# Altium footprint library longqiuPCB.PCBLIB: 9 footprints
Each footprint in its own frame and in the unit in brackets; x right, y up, seen from the top. Pads: shape width x height; smd on the part's side, far side on the other; paste and mask are expansions set on the pad; w line width, h text height; cw(c..) or ccw(c..) is an arc to the next point about the centre after c.
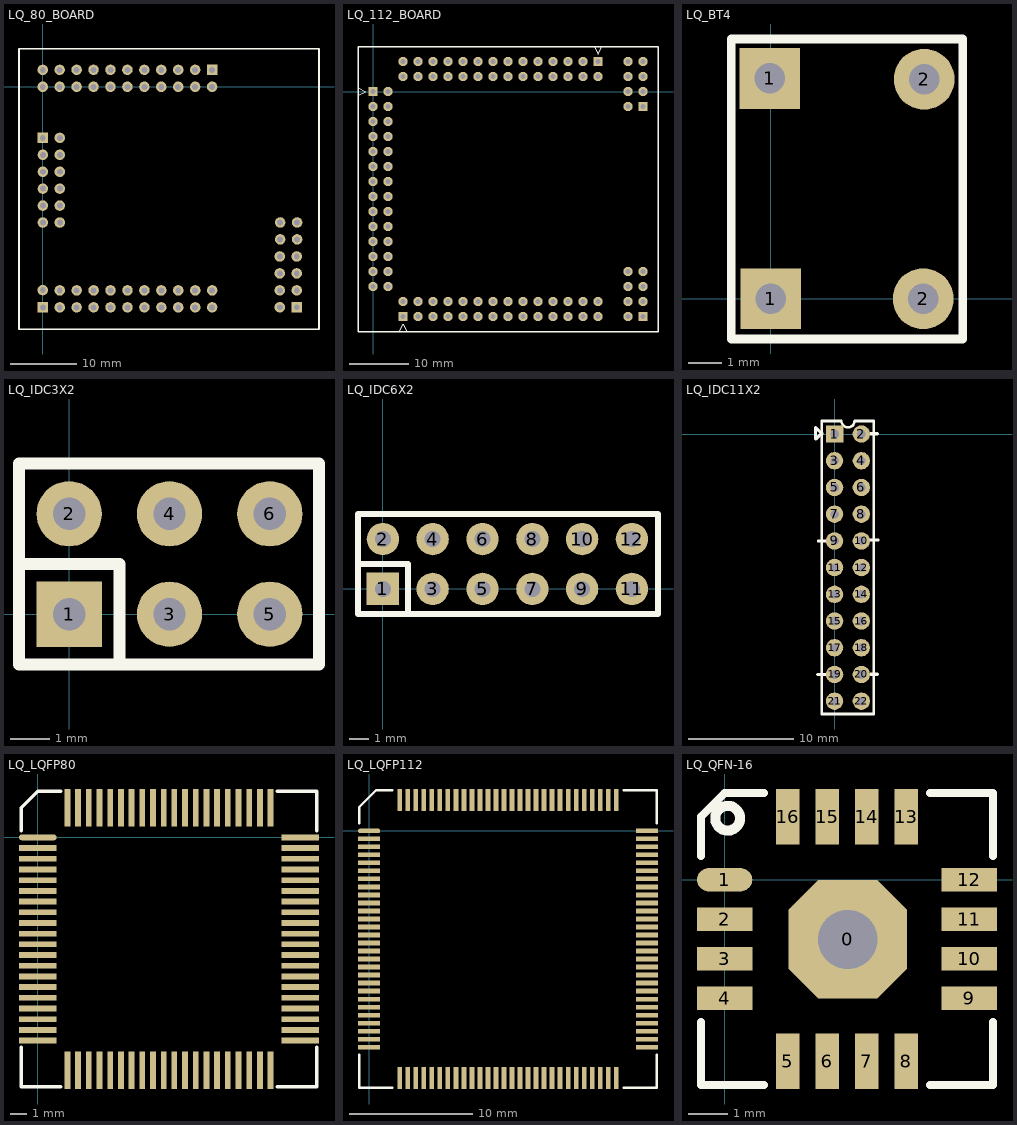
[diagram p0: the footprints below, top view; thin cyan lines are the x and y axes]

## LQ_80_BOARD [mil]
pads (68):
  rect 62x62 hole 35: 101(0.39,-1301.57) 201(0,-300.39) 301(1000,100.79) 401(1500,-1301.18)
  round 62 hole 35: 102(0,-1200) 103(100.39,-1301.57) 104(100.39,-1201.57) 105(200.39,-1301.57) 106(200.39,-1201.57) 107(300.39,-1301.57) 108(300.39,-1201.57) 109(400.39,-1301.57) 110(400.39,-1201.57) 111(500.39,-1301.57) 112(500.39,-1201.57) 113(600.39,-1301.57) 114(600.39,-1201.57) 115(700.39,-1301.57) 116(700.39,-1201.57) 117(800.39,-1301.57) 118(800.39,-1201.57) 119(900.39,-1301.57) 120(900.39,-1201.57) 121(1000.39,-1301.57) 122(1000.39,-1201.57) 202(100.79,-300.79) 203(0.79,-400.79) 204(100.79,-400.79) 205(0.79,-500.79) 206(100.79,-500.79) 207(0.79,-600.79) 208(100.79,-600.79) 209(0.79,-700.79) 210(100.79,-700.79) 211(0.79,-800.79) 212(100.79,-800.79) 302(1000,0.79) 303(900,100.79) 304(900,0.79) 305(800,100.79) 306(800,0.79) 307(700,100.79) 308(700,0.79) 309(600,100.79) 310(600,0.79) 311(500,100.79) 312(500,0.79) 313(400,100.79) 314(400,0.79) 315(300,100.79) 316(300,0.79) 317(200,100.79) 318(200,0.79) 319(100,100.79) 320(100,0.79) 321(0,100.79) 322(0,0.79) 402(1400,-1301.18) 403(1500,-1201.18) 404(1400,-1201.18) 405(1500,-1101.18) 406(1400,-1101.18) 407(1500,-1001.18) 408(1400,-1001.18) 409(1501.97,-900.39) 410(1401.97,-900.39) 411(1501.97,-800.39) 412(1401.97,-800.39)
TopOverlay:
  lines w10: -140.16,-1430.31 1631.5,-1430.31 1631.5,224.8 -140.16,224.8 -140.16,-1430.31

## LQ_112_BOARD [mil]
pads (100):
  rect 62x62 hole 35: 101(200,-1500) 201(0,0) 301(1500,200) 401(1800,-1500) 501(1800,-100)
  round 62 hole 35: 102(200,-1400) 103(300,-1500) 104(300,-1400) 105(400,-1500) 106(400,-1400) 107(500,-1500) 108(500,-1400) 109(600,-1500) 110(600,-1400) 111(700,-1500) 112(700,-1400) 113(800,-1500) 114(800,-1400) 115(900,-1500) 116(900,-1400) 117(1000,-1500) 118(1000,-1400) 119(1100,-1500) 120(1100,-1400) 121(1200,-1500) 122(1200,-1400) 123(1300,-1500) 124(1300,-1400) 125(1400,-1500) 126(1400,-1400) 127(1500,-1500) 128(1500,-1400) 202(100,0) 203(0,-100) 204(100,-100) 205(0,-200) 206(100,-200) 207(0,-300) 208(100,-300) 209(0,-400) 210(100,-400) 211(0,-500) 212(100,-500) 213(0,-600) 214(100,-600) 215(0,-700) 216(100,-700) 217(0,-800) 218(100,-800) 219(0,-900) 220(100,-900) 221(0,-1000) 222(100,-1000) 223(0,-1100) 224(100,-1100) 225(0,-1200) 226(100,-1200) 227(0,-1300) 228(100,-1300) 302(1500,100) 303(1400,200) 304(1400,100) 305(1300,200) 306(1300,100) 307(1200,200) 308(1200,100) 309(1100,200) 310(1100,100) 311(1000,200) 312(1000,100) 313(900,200) 314(900,100) 315(800,200) 316(800,100) 317(700,200) 318(700,100) 319(600,200) 320(600,100) 321(500,200) 322(500,100) 323(400,200) 324(400,100) 325(300,200) 326(300,100) 327(200,200) 328(200,100) 402(1700,-1500) 403(1800,-1400) 404(1700,-1400) 405(1800,-1300) 406(1700,-1300) 407(1800,-1200) 408(1700,-1200) 502(1700,-100) 503(1800,0) 504(1700,0) 505(1800,100) 506(1700,100) 507(1800,200) 508(1700,200)
TopOverlay:
  lines w8: -100,-25 -50,0 -100,25 ; 175,-1600 200,-1550 225,-1600 ; 1475,300 1500,250 1525,300
  lines w10: -100,-1600 1900,-1600 1900,300 -100,300 -100,-1600

## LQ_BT4 [mm]
pads (4):
  rect 1.8x1.8 hole 0.9: 1(-0.025,6.528) 1(0,0)
  round 1.8 hole 0.9: 2(4.521,0) 2(4.547,6.502)
TopOverlay:
  lines w0.254: -1.168,-1.194 5.69,-1.194 5.69,7.696 -1.168,7.696 -1.168,-1.194

## LQ_IDC3X2 [mm]
pads (6):
  rect 1.65x1.65 hole 0.82: 1(0,0)
  round 1.65 hole 0.82: 2(0,2.54) 3(2.54,0) 4(2.54,2.54) 5(5.08,0) 6(5.08,2.54)
TopOverlay:
  lines w0.305: -1.27,1.27 1.27,1.27 1.27,-1.27 ; -1.27,-1.27 6.325,-1.27 6.325,3.81 -1.27,3.81 -1.27,-1.27

## LQ_IDC6X2 [mm]
pads (12):
  rect 1.65x1.65 hole 0.82: 1(0,0)
  round 1.65 hole 0.82: 2(0,2.54) 3(2.54,0) 4(2.54,2.54) 5(5.08,0) 6(5.08,2.54) 7(7.62,0) 8(7.62,2.54) 9(10.16,0) 10(10.16,2.54) 11(12.7,0) 12(12.7,2.54)
TopOverlay:
  lines w0.305: -1.27,1.27 1.27,1.27 1.27,-1.27 ; -1.27,-1.27 -1.27,3.81 14.03,3.81 14.03,-1.27 -1.27,-1.27

## LQ_IDC11X2 [mm]
pads (22):
  rect 1.65x1.65 hole 0.82: 1(0,0)
  round 1.65 hole 0.82: 2(2.54,0) 3(0,-2.54) 4(2.54,-2.54) 5(0,-5.08) 6(2.54,-5.08) 7(0,-7.62) 8(2.54,-7.62) 9(0,-10.16) 10(2.54,-10.16) 11(0,-12.7) 12(2.54,-12.7) 13(0,-15.24) 14(2.54,-15.24) 15(0,-17.78) 16(2.54,-17.78) 17(0,-20.32) 18(2.54,-20.32) 19(0,-22.86) 20(2.54,-22.86) 21(0,-25.4) 22(2.54,-25.4)
TopOverlay:
  lines w0.254: -1.56,-10.17 -0.8,-10.17 ; -1.21,-26.62 -1.21,1.27 ; -1.2,-26.62 3.728,-26.62 ; -1.194,1.245 0.559,1.245 ; 0.635,1.27 ccw(c1.27,1.27) 1.905,1.27 ; 1.956,1.245 3.734,1.245 ; 3.27,-10.07 4.16,-10.07 ; 3.718,-26.62 3.718,1.27
  lines w0.3: -1.6,-22.86 -0.711,-22.86 ; -1.219,0.102 -1.803,-0.483 -1.803,0.61 -1.194,0 -1.194,-0.025 ; 3.404,-22.835 4.064,-22.835 ; 3.404,0.025 4.089,0.025

## LQ_LQFP80 [mm]
pads (80):
  oval 2.286x0.35 smd: 1(0,0)
  rect 2.286x0.35 smd: 2(0,-0.65) 3(0,-1.3) 4(0,-1.95) 5(0,-2.6) 6(0,-3.25) 7(0,-3.9) 8(0,-4.55) 9(0,-5.2) 10(0,-5.85) 11(0,-6.5) 12(0,-7.15) 13(0,-7.8) 14(0,-8.45) 15(0,-9.1) 16(0,-9.75) 17(0,-10.4) 18(0,-11.05) 19(0,-11.7) 20(0,-12.35) 41(15.95,-12.35) 42(15.95,-11.7) 43(15.95,-11.05) 44(15.95,-10.4) 45(15.95,-9.75) 46(15.95,-9.1) 47(15.95,-8.45) 48(15.95,-7.8) 49(15.95,-7.15) 50(15.95,-6.5) 51(15.95,-5.85) 52(15.95,-5.2) 53(15.95,-4.55) 54(15.95,-3.9) 55(15.95,-3.25) 56(15.95,-2.6) 57(15.95,-1.95) 58(15.95,-1.3) 59(15.95,-0.65) 60(15.95,0)
  rect 0.35x2.286 smd: 21(1.8,-14.15) 22(2.45,-14.15) 23(3.1,-14.15) 24(3.75,-14.15) 25(4.4,-14.15) 26(5.05,-14.15) 27(5.7,-14.15) 28(6.35,-14.15) 29(7,-14.15) 30(7.65,-14.15) 31(8.3,-14.15) 32(8.95,-14.15) 33(9.6,-14.15) 34(10.25,-14.15) 35(10.9,-14.15) 36(11.55,-14.15) 37(12.2,-14.15) 38(12.85,-14.15) 39(13.5,-14.15) 40(14.15,-14.15) 61(14.15,1.8) 62(13.5,1.8) 63(12.85,1.8) 64(12.2,1.8) 65(11.55,1.8) 66(10.9,1.8) 67(10.25,1.8) 68(9.6,1.8) 69(8.95,1.8) 70(8.3,1.8) 71(7.65,1.8) 72(7,1.8) 73(6.35,1.8) 74(5.7,1.8) 75(5.05,1.8) 76(4.4,1.8) 77(3.75,1.8) 78(3.1,1.8) 79(2.45,1.8) 80(1.8,1.8)
TopOverlay:
  lines w0.2: -1,-12.75 -1,-15.15 1.4,-15.15 ; -1,0.4 -1,1.8 0,2.8 1.4,2.8 ; 14.55,-15.15 16.95,-15.15 16.95,-12.75 ; 14.55,2.8 16.95,2.8 16.95,0.4

## LQ_LQFP112 [mm]
pads (112):
  oval 1.8x0.375 smd: 1(0,0)
  rect 1.8x0.375 smd: 2(0,-0.65) 3(0,-1.3) 4(0,-1.95) 5(0,-2.6) 6(0,-3.25) 7(0,-3.9) 8(0,-4.55) 9(0,-5.2) 10(0,-5.85) 11(0,-6.5) 12(0,-7.15) 13(0,-7.8) 14(0,-8.45) 15(0,-9.1) 16(0,-9.75) 17(0,-10.4) 18(0,-11.05) 19(0,-11.7) 20(0,-12.35) 21(0,-13) 22(0,-13.65) 23(0,-14.3) 24(0,-14.95) 25(0,-15.6) 26(0,-16.25) 27(0,-16.9) 28(0,-17.55) 57(22.55,-17.55) 58(22.55,-16.9) 59(22.55,-16.25) 60(22.55,-15.6) 61(22.55,-14.95) 62(22.55,-14.3) 63(22.55,-13.65) 64(22.55,-13) 65(22.55,-12.35) 66(22.55,-11.7) 67(22.55,-11.05) 68(22.55,-10.4) 69(22.55,-9.75) 70(22.55,-9.1) 71(22.55,-8.45) 72(22.55,-7.8) 73(22.55,-7.15) 74(22.55,-6.5) 75(22.55,-5.85) 76(22.55,-5.2) 77(22.55,-4.55) 78(22.55,-3.9) 79(22.55,-3.25) 80(22.55,-2.6) 81(22.55,-1.95) 82(22.55,-1.3) 83(22.55,-0.65) 84(22.55,0)
  rect 0.375x1.8 smd: 29(2.5,-20.05) 30(3.15,-20.05) 31(3.8,-20.05) 32(4.45,-20.05) 33(5.1,-20.05) 34(5.75,-20.05) 35(6.4,-20.05) 36(7.05,-20.05) 37(7.7,-20.05) 38(8.35,-20.05) 39(9,-20.05) 40(9.65,-20.05) 41(10.3,-20.05) 42(10.95,-20.05) 43(11.6,-20.05) 44(12.25,-20.05) 45(12.9,-20.05) 46(13.55,-20.05) 47(14.2,-20.05) 48(14.85,-20.05) 49(15.5,-20.05) 50(16.15,-20.05) 51(16.8,-20.05) 52(17.45,-20.05) 53(18.1,-20.05) 54(18.75,-20.05) 55(19.4,-20.05) 56(20.05,-20.05) 85(20.05,2.5) 86(19.4,2.5) 87(18.75,2.5) 88(18.1,2.5) 89(17.45,2.5) 90(16.8,2.5) 91(16.15,2.5) 92(15.5,2.5) 93(14.85,2.5) 94(14.2,2.5) 95(13.55,2.5) 96(12.9,2.5) 97(12.25,2.5) 98(11.6,2.5) 99(10.95,2.5) 100(10.3,2.5) 101(9.65,2.5) 102(9,2.5) 103(8.35,2.5) 104(7.7,2.5) 105(7.05,2.5) 106(6.4,2.5) 107(5.75,2.5) 108(5.1,2.5) 109(4.45,2.5) 110(3.8,2.5) 111(3.15,2.5) 112(2.5,2.5)
TopOverlay:
  lines w0.2: -0.8,-18.15 -0.8,-20.85 1.9,-20.85 ; -0.8,0.6 -0.8,1.93 0.56,3.3 1.9,3.3 ; 20.65,-20.85 23.35,-20.85 23.35,-18.15 ; 20.65,3.3 23.35,3.3 23.35,0.6

## LQ_QFN-16 [mm]
pads (17):
  oct 3x3 hole 1.5: 0(3.12,-1.51)
  oval 1.4x0.6 smd: 1(0,0)
  rect 1.4x0.6 smd: 2(0,-1) 3(0,-2) 4(0,-3) 9(6.2,-3) 10(6.2,-2) 11(6.2,-1) 12(6.2,0)
  rect 0.6x1.4 smd: 5(1.6,-4.6) 6(2.6,-4.6) 7(3.6,-4.6) 8(4.6,-4.6) 13(4.6,1.6) 14(3.6,1.6) 15(2.6,1.6) 16(1.6,1.6)
TopOverlay:
  circle w0.254: c0.076,1.56 r0.314
  lines w0.2: -0.6,-3.6 -0.6,-5.2 1,-5.2 ; -0.6,0.6 -0.6,1.6 0,2.2 1,2.2 ; 5.2,-5.2 6.8,-5.2 6.8,-3.6 ; 5.2,2.2 6.8,2.2 6.8,0.6